# EAGLE library part TSOC-32 (library thingSoC)
thingSoC Thirty-Two (32) Pin Socket Source LBR : http://www.thingsoc.com Github : https://github.com/thingsoc License : http://creativecommons.org/licenses/by-sa/4.0/ (Creative Commons 4.0) THIS SOFTWARE IS PROVIDED BY THE CONTRIBUTORS "AS IS" AND WITHOUT ANY EXPRESS OR IMPLIED WARRANTIES, INCLUDING, BUT NOT LIMITED TO, THE IMPLIED WARRANTIES OF MERCHANTABILITY AND FITNESS FOR A PARTICULAR PURPOSE ARE DISCLAIMED. IN NO EVENT SHALL THE COPYRIGHT OWNER OR CONTRIBUTORS BE LIABLE FOR ANY DIRECT, INDIRECT, INCIDENTAL, SPECIAL, EXEMPLARY, OR CONSEQUENTIAL DAMAGES (INCLUDING, BUT NOT LIMITED TO, PROCUREMENT OF SUBSTITUTE GOODS OR SERVICES; LOSS OF USE, DATA, OR PROFITS; OR BUSINESS INTERRUPTION) HOWEVER CAUSED AND ON ANY THEORY OF LIABILITY, WHETHER IN CONTRACT, STRICT LIABILITY, OR TORT (INCLUDING NEGLIGENCE OR OTHERWISE) ARISING IN ANY WAY OUT OF THE USE OF THIS SOFTWARE, EVEN IF ADVISED OF THE POSSIBILITY OF SUCH DAMAGE.
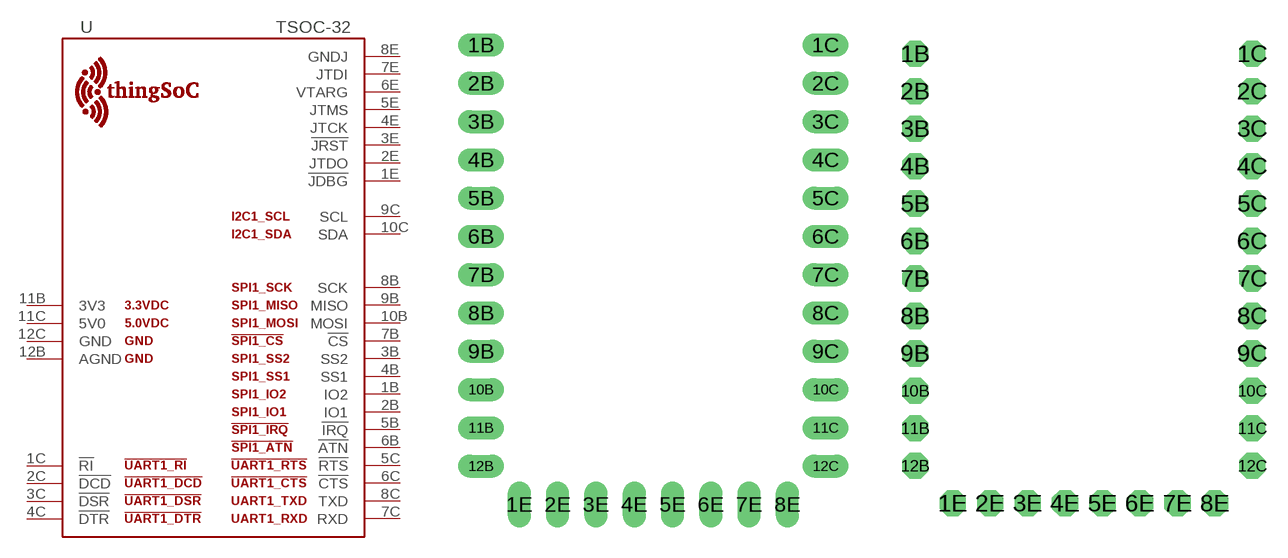
[diagram p1: symbol with the pads of TSOC-EM-S32; footprints TSOC-EM-S32, TSOC-BB-S32]

Designator prefix -

## TSOC-32-EM  [TSOC-EM-S32]
1B  IO2
1C  !RI
1E  !JDBG
2B  IO1
2C  !DCD
2E  JTDO
3B  SS2
3C  !DSR
3E  !JRST
4B  SS1
4C  !DTR
4E  JTCK
5B  !IRQ
5C  !RTS
5E  JTMS
6B  !ATN
6C  !CTS
6E  VTARG
7B  !CS
7C  RXD
7E  JTDI
8B  SCK
8C  TXD
8E  GNDJ
9B  MISO
9C  SCL
10B  MOSI
10C  SDA
11B  3V3
11C  5V0
12B  AGND
12C  GND

## TSOC-32-BB  [TSOC-BB-S32]
Pads as for TSOC-EM-S32

## TSOC-32-SMD-TOP  [TSOC-BB-S32-SMD-TOP]
Pads as for TSOC-EM-S32

## Footprint TSOC-EM-S32 (pad centres in mm)
thingSoC Embedded Module Thirty-Two(32) Pin Socket Source LBR : http://www.thingsoc.com Github : https://github.com/thingsoc License : http://creativecommons.org/licenses/by-sa/4.0/ (Creative Commons 4.0) THIS SOFTWARE IS PROVIDED BY THE CONTRIBUTORS "AS IS" AND WITHOUT ANY EXPRESS OR IMPLIED WARRANTIES, INCLUDING, BUT NOT LIMITED TO, THE IMPLIED WARRANTIES OF MERCHANTABILITY AND FITNESS FOR A PARTICULAR PURPOSE ARE DISCLAIMED. IN NO EVENT SHALL THE COPYRIGHT OWNER OR CONTRIBUTORS BE LIABLE FOR ANY DIRECT, INDIRECT, INCIDENTAL, SPECIAL, EXEMPLARY, OR CONSEQUENTIAL DAMAGES (INCLUDING, BUT NOT LIMITED TO, PROCUREMENT OF SUBSTITUTE GOODS OR SERVICES; LOSS OF USE, DATA, OR PROFITS; OR BUSINESS INTERRUPTION) HOWEVER CAUSED AND ON ANY THEORY OF LIABILITY, WHETHER IN CONTRACT, STRICT LIABILITY, OR TORT (INCLUDING NEGLIGENCE OR OTHERWISE) ARISING IN ANY WAY OUT OF THE USE OF THIS SOFTWARE, EVEN IF ADVISED OF THE POSSIBILITY OF SUCH DAMAGE.
drill 1.016 long: 1B -11.43,11.43; 1C 11.43,11.43; 1E -8.89,-19.05; 2B -11.43,8.89; 2C 11.43,8.89; 2E -6.35,-19.05; 3B -11.43,6.35; 3C 11.43,6.35; 3E -3.81,-19.05; 4B -11.43,3.81; 4C 11.43,3.81; 4E -1.27,-19.05; 5B -11.43,1.27; 5C 11.43,1.27; 5E 1.27,-19.05; 6B -11.43,-1.27; 6C 11.43,-1.27; 6E 3.81,-19.05; 7B -11.43,-3.81; 7C 11.43,-3.81; 7E 6.35,-19.05; 8B -11.43,-6.35; 8C 11.43,-6.35; 8E 8.89,-19.05; 9B -11.43,-8.89; 9C 11.43,-8.89; 10B -11.43,-11.43; 10C 11.43,-11.43; 11B -11.43,-13.97; 11C 11.43,-13.97; 12B -11.43,-16.51; 12C 11.43,-16.51

## Footprint TSOC-BB-S32 (pad centres in mm)
thingSoC BreadBoard Module Thirty-Two(32) Pin Socket Source LBR : http://www.thingsoc.com Github : https://github.com/thingsoc License : http://creativecommons.org/licenses/by-sa/4.0/ (Creative Commons 4.0) THIS SOFTWARE IS PROVIDED BY THE CONTRIBUTORS "AS IS" AND WITHOUT ANY EXPRESS OR IMPLIED WARRANTIES, INCLUDING, BUT NOT LIMITED TO, THE IMPLIED WARRANTIES OF MERCHANTABILITY AND FITNESS FOR A PARTICULAR PURPOSE ARE DISCLAIMED. IN NO EVENT SHALL THE COPYRIGHT OWNER OR CONTRIBUTORS BE LIABLE FOR ANY DIRECT, INDIRECT, INCIDENTAL, SPECIAL, EXEMPLARY, OR CONSEQUENTIAL DAMAGES (INCLUDING, BUT NOT LIMITED TO, PROCUREMENT OF SUBSTITUTE GOODS OR SERVICES; LOSS OF USE, DATA, OR PROFITS; OR BUSINESS INTERRUPTION) HOWEVER CAUSED AND ON ANY THEORY OF LIABILITY, WHETHER IN CONTRACT, STRICT LIABILITY, OR TORT (INCLUDING NEGLIGENCE OR OTHERWISE) ARISING IN ANY WAY OUT OF THE USE OF THIS SOFTWARE, EVEN IF ADVISED OF THE POSSIBILITY OF SUCH DAMAGE.
drill 1.016 pad 1.778 octagon: 1B -11.43,11.43; 1C 11.43,11.43; 1E -8.89,-19.05; 2B -11.43,8.89; 2C 11.43,8.89; 2E -6.35,-19.05; 3B -11.43,6.35; 3C 11.43,6.35; 3E -3.81,-19.05; 4B -11.43,3.81; 4C 11.43,3.81; 4E -1.27,-19.05; 5B -11.43,1.27; 5C 11.43,1.27; 5E 1.27,-19.05; 6B -11.43,-1.27; 6C 11.43,-1.27; 6E 3.81,-19.05; 7B -11.43,-3.81; 7C 11.43,-3.81; 7E 6.35,-19.05; 8B -11.43,-6.35; 8C 11.43,-6.35; 8E 8.89,-19.05; 9B -11.43,-8.89; 9C 11.43,-8.89; 10B -11.43,-11.43; 10C 11.43,-11.43; 11B -11.43,-13.97; 11C 11.43,-13.97; 12B -11.43,-16.51; 12C 11.43,-16.51

## Footprint TSOC-BB-S32-SMD-TOP (pad centres in mm)
thingSoC Single Thirty-Two(32) Pin SIngle-in-Line SMD Socket - TOP layer metal Source LBR : http://www.thingsoc.com Github : https://github.com/thingsoc License : http://creativecommons.org/licenses/by-sa/4.0/ (Creative Commons 4.0) THIS SOFTWARE IS PROVIDED BY THE CONTRIBUTORS "AS IS" AND WITHOUT ANY EXPRESS OR IMPLIED WARRANTIES, INCLUDING, BUT NOT LIMITED TO, THE IMPLIED WARRANTIES OF MERCHANTABILITY AND FITNESS FOR A PARTICULAR PURPOSE ARE DISCLAIMED. IN NO EVENT SHALL THE COPYRIGHT OWNER OR CONTRIBUTORS BE LIABLE FOR ANY DIRECT, INDIRECT, INCIDENTAL, SPECIAL, EXEMPLARY, OR CONSEQUENTIAL DAMAGES (INCLUDING, BUT NOT LIMITED TO, PROCUREMENT OF SUBSTITUTE GOODS OR SERVICES; LOSS OF USE, DATA, OR PROFITS; OR BUSINESS INTERRUPTION) HOWEVER CAUSED AND ON ANY THEORY OF LIABILITY, WHETHER IN CONTRACT, STRICT LIABILITY, OR TORT (INCLUDING NEGLIGENCE OR OTHERWISE) ARISING IN ANY WAY OUT OF THE USE OF THIS SOFTWARE, EVEN IF ADVISED OF THE POSSIBILITY OF SUCH DAMAGE.
smd 2 x 1: 1B -9.78,11.43; 1C 13.08,11.43; 2B -13.08,8.89; 2C 9.78,8.89; 3B -9.78,6.35; 3C 13.08,6.35; 4B -13.08,3.81; 4C 9.78,3.81; 5B -9.78,1.27; 5C 13.08,1.27; 6B -13.08,-1.27; 6C 9.78,-1.27; 7B -9.78,-3.81; 7C 13.08,-3.81; 8B -13.08,-6.35; 8C 9.78,-6.35; 9B -9.78,-8.89; 9C 13.08,-8.89; 10B -13.08,-11.43; 10C 9.78,-11.43; 11B -9.78,-13.97; 11C 13.08,-13.97; 12B -13.08,-16.51; 12C 9.78,-16.51
smd 1 x 2: 1E -8.89,-17.4; 2E -6.35,-20.7; 3E -3.81,-17.4; 4E -1.27,-20.7; 5E 1.27,-17.4; 6E 3.81,-20.7; 7E 6.35,-17.4; 8E 8.89,-20.7